# Altium schematic symbol library MCPxxxxx.SchLib: 4 symbols
Pins are listed as number, name and electrical type; pins without a type are passive.

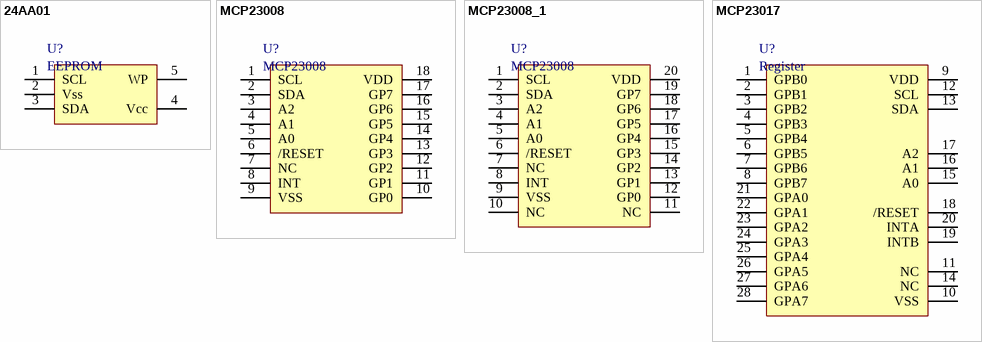
[diagram p0: symbols 24AA01 to MCP23017]

## 24AA01
designator U?, comment EEPROM
1K I2  C  ™ Serial EEPROM; Manufacturer Part Number: 24AA01T-I/OT
pins: 1 SCL, 2 Vss, 3 SDA, 4 Vcc, 5 WP

## MCP23008
designator U?
8-Bit I/O Expander with Serial Interface; datasheet: http://ww1.microchip.com/downloads/en/DeviceDoc/21919e.pdf
pins: 1 SCL, 2 SDA, 3 A2, 4 A1, 5 A0, 6 /RESET, 7 NC, 8 INT, 9 VSS, 10 GP0, 11 GP1, 12 GP2, 13 GP3, 14 GP4, 15 GP5, 16 GP6, 17 GP7, 18 VDD

## MCP23008_1
designator U?, comment MCP23008
8-Bit I/O Expander with Serial Interface; datasheet: http://ww1.microchip.com/downloads/en/DeviceDoc/21919e.pdf
pins: 1 SCL, 2 SDA, 3 A2, 4 A1, 5 A0, 6 /RESET, 7 NC, 8 INT, 9 VSS, 10 NC, 11 NC, 12 GP0, 13 GP1, 14 GP2, 15 GP3, 16 GP4, 17 GP5, 18 GP6, 19 GP7, 20 VDD

## MCP23017
designator U?, comment Register
16-Bit I/O Expander with Serial Interface; Manufacturer Part Number: MCP23017-E/SS
pins: 1 GPB0, 2 GPB1, 3 GPB2, 4 GPB3, 5 GPB4, 6 GPB5, 7 GPB6, 8 GPB7, 9 VDD, 10 VSS, 11 NC, 12 SCL, 13 SDA, 14 NC, 15 A0, 16 A1, 17 A2, 18 /RESET, 19 INTB, 20 INTA, 21 GPA0, 22 GPA1, 23 GPA2, 24 GPA3, 25 GPA4, 26 GPA5, 27 GPA6, 28 GPA7